# EAGLE library part ESP8266-01 (library PiB_radio_frequency)
TXRX ESP8266 MOD WIFI TRACE ANT
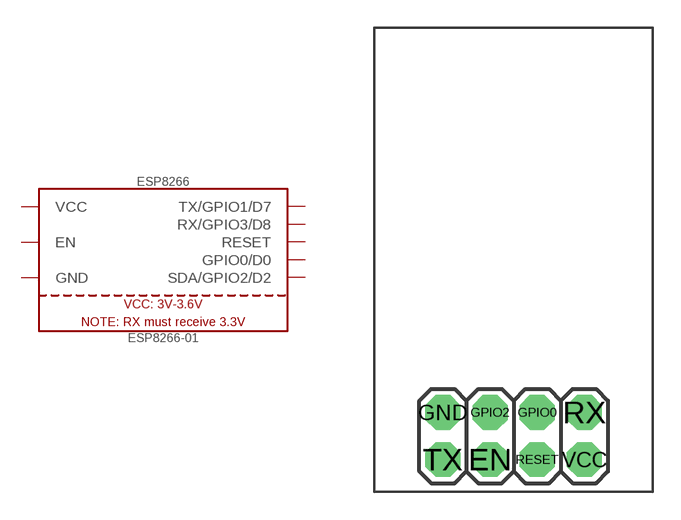
[diagram p1: symbol with the pads of ESP8266-01; footprint ESP8266-01]

Designator prefix ESP8266

## ESP8266-01 (DATASHEET: https://nurdspace.nl/images/e/e0/ESP8266_Specifications_English.pdf; DIST: Digikey; DISTLINK: https://www.digikey.com/products/en?keywords=1568-1235-ND; DISTPN: 1568-1235-ND; MFR: SparkFun Electronics; MPN: WRL-13678; VALUE: ESP8266-01)  [ESP8266-01]
EN  EN
GND  GND
GPIO0  GPIO0/D0
GPIO2  SDA/GPIO2/D2
RESET  RESET
RX  RX/GPIO3/D8
TX  TX/GPIO1/D7
VCC  VCC

## Footprint ESP8266-01 (pad centres in mm)
drill 1.016 pad 1.88 octagon: EN -1.27,-1.27; GND -3.81,1.27; GPIO0 1.27,1.27; GPIO2 -1.27,1.27; RESET 1.27,-1.27; RX 3.81,1.27; TX -3.81,-1.27; VCC 3.81,-1.27